# Altium schematic symbol library SSL-2020-SchLib1.SchLib: 57 symbols
Pins are listed as number, name and electrical type; pins without a type are passive.

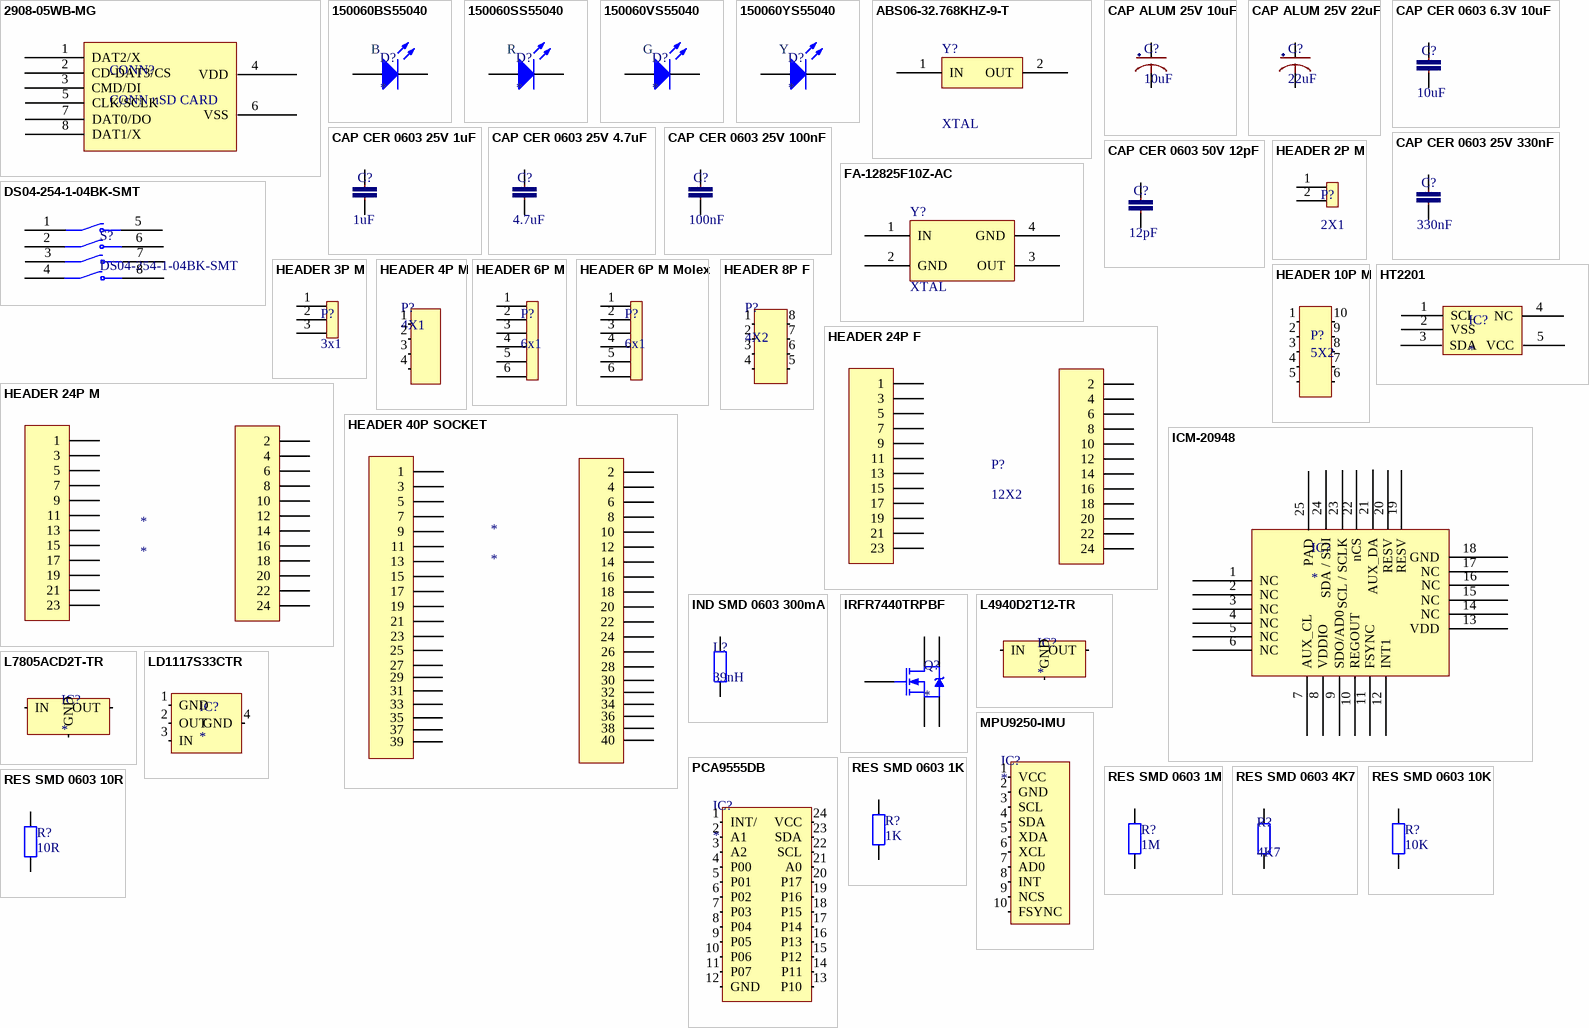
[diagram p0: symbols 2908-05WB-MG to RES SMD 0603 10R]

## 2908-05WB-MG
designator CONN?, comment CONN uSD CARD
8 Position Card Connector Secure Digital - microSD™ Surface Mount, Right Angle Gold; ComponentLink1Description: Datasheet; ComponentLink1URL: https://multimedia.3m.com/mws/media/416257O/3mtm-card-connector-microsdtm-2900-series-ts2197.pdf
footprint 2908-05WB-MG
pins: 1 DAT2/X, 2 CD-DAT3/CS, 3 CMD/DI, 4 VDD, 5 CLK/SCLK, 6 VSS, 7 DAT0/DO (power), 8 DAT1/X (power)

## 150060BS55040
designator D?
Standard LEDs - SMD WL-SMCD SMD Mono SMD 0603 Blue 465nm; Mfr: Wurth Elektronik; Forward Current: 20mA; Forward Voltage: 2V; Package: 0603 (1608 metric); Series: WL-SMCD; Color: Blue
footprint LED 0603 BLUE
pins: 1 P, 2 N
text: B

## 150060SS55040
designator D?
Standard LEDs - SMD WL-SMCD SMD MonoChip 0603 Super Red 645nm; Mfr: Wurth Elektronik; Forward Current: 20mA; Forward Voltage: 2V; Package: 0603 (1608 metric); Series: WL-SMCD; Color: Red
footprint LED 0603 RED
pins: 1 P, 2 N
text: R

## 150060VS55040
designator D?
Standard LEDs - SMD WL-SMCD SMD MonoChip 0603 BrtGrn 575nm; Mfr: Wurth Elektronik; Forward Current: 20mA; Forward Voltage: 2V; Color: Green; Package: 0603 (1608 metric); Series: WL-SMCD
footprint LED 0603 GREEN
pins: 1 P, 2 N
text: G

## 150060YS55040
designator D?
Standard LEDs - SMD WL-SMCD SMD MonoChip 0603 Yllw 591nm; Mfr: Wurth Elektronik; Forward Current: 20mA; Forward Voltage: 2V; Color: Yellow; Package: 0603 (1608 metric); Series: WL-SMCD
footprint LED 0603 YELLOW
pins: 1 P, 2 N
text: Y

## ABS06-32.768KHZ-9-T
designator Y?, comment XTAL
Crystals 32.768KHz 9pF 20ppm -40 C+85C; Mfr Nr: ABS06-32.768KHZ-9-T; Mfr: ABRACON; ESR: 90 kOhms; Package: 2 mm x 1.6 mm; Load Capacitance: 9 pF; Frequency: 32.768 kHz; Series: ABS06; Tolerance: 20 PPM
footprint XTAL-200X120
pins: 1 IN, 2 OUT

## CAP ALUM 25V 10uF
designator C?, comment 10uF
Aluminum Electrolytic Capacitors - SMD 25volts 10uF 5x5.4 20%; Mfr: Nichion; Mfr Nr: UWX1E100MCL1GB; Voltage Rating: 25V; Type: Surface Mount Aluminum Electrolytic Capacitor; Dimensions: 5x5mm; Series: UWX; Value: 10uF
footprint CAP ALUM 5X5
pins: 1, 2

## CAP ALUM 25V 22uF
designator C?, comment 22uF
Aluminum Electrolytic Capacitors - SMD 25V 22uF 20% AEC-Q200; Mfr: KEMET; Mfr Nr: EDH226M025S9DAA; Type: Surface Mount Aluminum Electrolytic Capacitor; Dimensions: 5x5mm; Voltage Rating: 25V; Series: EDH; Value: 22uF
footprint CAP ALUM 5X5
pins: 1, 2

## CAP CER 0603 6.3V 10uF
designator C?, comment 10uF
Multilayer Ceramic Capacitors MLCC - SMD/SMT 0603 6.3V 10uF X5R 10% Soft Term; Mfr Nr: C1608X5R0J106K080AE; Mfr: TDK; Type: Ceramic Capacitor; Dimensions: 0603 (1608 metric); Voltage Rating: 6.3V; Series: C; Value: 10uF
footprint CAP CER 0603
pins: 1, 2

## CAP CER 0603 25V 1uF
designator C?, comment 1uF
Multilayer Ceramic Capacitors MLCC - SMD/SMT 1uF 25V X5R 10%; Mfr Nr: C0603C105K3PAC7411; Mfr: KEMET; Type: Ceramic Capacitor; Dimensions: 0603 (1608 metric); Voltage Rating: 25V; Series: SMD Comm X5R; Value: 1uF
footprint CAP CER 0603
pins: 1, 2

## CAP CER 0603 25V 4.7uF
designator C?, comment 4.7uF
Multilayer Ceramic Capacitors MLCC - SMD/SMT 0603 25V 4.7uF X5R 20% T: 0.8mm; Mfr Nr: C1608X5R1E475M080AC; Mfr: KEMET; Type: Ceramic Capacitor; Dimensions: 0603 (1608 metric); Voltage Rating: 25V; Series: C; Value: 4.7uF
footprint CAP CER 0603
pins: 1, 2

## CAP CER 0603 25V 100nF
designator C?, comment 100nF
Multilayer Ceramic Capacitors MLCC - SMD/SMT 25V 0.1uF 0603 Y5V -20/+80%; Mfr Nr: C0603C104Z3VACTU; Mfr: KEMET; Type: Ceramic Capacitor; Dimensions: 0603 (1608 metric); Voltage Rating: 25V; Series: SMD Comm Y5V; Value: 100nF
footprint CAP CER 0603
pins: 1, 2

## CAP CER 0603 25V 330nF
designator C?, comment 330nF
Multilayer Ceramic Capacitors MLCC - SMD/SMT 0603 25VDC 0.33uF 10% X5R 0.8mm; Mfr Nr: C1608X5R1E334K080AC; Mfr: TDK; Voltage Rating: 25V; Type: Ceramic Capacitor; Dimensions: 0603 (1608 metric); Series: C; Value: 330nF
footprint CAP CER 0603
pins: 1, 2

## CAP CER 0603 50V 12pF
designator C?, comment 12pF
Multilayer Ceramic Capacitors MLCC - SMD/SMT 50V 12pF 0603 C0G 5%; Mfr Nr: C0603C120J5GAC; Mfr: KEMET; Type: Ceramic Capacitor; Dimensions: 0603 (1608 metric); Series: SMD Comm C0G; Voltage Rating: 50V; Value: 12pF
footprint CAP CER 0603
pins: 1, 2

## DS04-254-1-04BK-SMT
designator S?
Dip Switch SPST 4 Position Surface Mount Slide (Standard) Actuator 25mA 24VDC; ComponentLink1Description: Datasheet; ComponentLink1URL: https://br.mouser.com/datasheet/2/670/ds04-254-smt-1777718.pdf
footprint DS04-254-1-04BK-SMT
pins: 1, 2, 3, 4, 5, 6, 7, 8

## FA-12825F10Z-AC
designator Y?, comment XTAL
Crystals 25MHz 10PPM -20C +75C 9.0pF; Mfr Nr: FA-128  25.0000MF10Z-AC; Mfr: Epson Timing; Load Capacitance: 9 pF; ESR: 80 Ohms; Package: 2 mm x 1.6 mm; Frequency: 25 MHz; Series: FA-128; Tolerance: 10 PPM
footprint XTAL-200X160
pins: 1 IN, 2 GND, 3 OUT, 4 GND

## HEADER 2P M
designator P?, comment 2X1
footprint HEADER 2X1 MALE
pins: 1, 2

## HEADER 3P M
designator P?, comment 3x1
Headers & Wire Housings 03 SIL VERTICAL PIN HEADER TIN; Mfr Nr: M20-9770346
footprint HEADER 3X1 MALE
pins: 1, 2, 3

## HEADER 4P M
designator P?, comment 4X1
Headers & Wire Housings 1X04 POS VERT TIN; Mfr: TE Connectivity / AMP; Mfr Nr: 826926-4; Pitch: 2.54mm; Series: AMPMODU MOD II; Contact Gender:: Pin (Male); Type: Breakaway
footprint HEADER 4X1 MALE
pins: 1, 2, 3, 4

## HEADER 6P M
designator P?, comment 6x1
Connector Header Through Hole 6 position 0.100" (2.54mm)
footprint HEADER 6X1 MALE
pins: 1, 2, 3, 4, 5, 6

## HEADER 6P M Molex
designator P?, comment 6x1
Connector Header Through Hole 6 position 0.100" (2.54mm)
footprint HEADER 6X1 MALE
pins: 1, 2, 3, 4, 5, 6

## HEADER 8P F
designator P?, comment 4X2
Headers & Wire Housings 04+04 DIL VERTICAL SOCKET TIN; Mfr: Harwin; Mfr Nr: M20-7830446; Pitch: 2.54mm; Series: M20; Type: Socket Assembly; Contact Gender: Socket (Female)
footprint HEADER 4X2 FEM
pins: 1, 2, 3, 4, 5, 6, 7, 8

## HEADER 10P M
designator P?, comment 5X2
footprint HEADER 5X2 MALE
footprint HEADER SWD
pins: 1, 2, 3, 4, 5, 6, 7, 8, 9, 10

## HEADER 24P F
designator P?, comment 12X2
Headers & Wire Housings 12+12 DIL VERTICAL SOCKET GOLD+TIN; Mfr: Harwin; Mfr Nr: M20-7831242; Pitch: 2.54mm; Series: M20; Type: Socket Assembly; Contact Gender: Socket (Female)
footprint HEADER 12X2 FEM
pins: 1, 2, 3, 4, 5, 6, 7, 8, 9, 10, 11, 12, 13, 14, 15, 16, 17, 18, 19, 20, 21, 22, 23, 24

## HEADER 24P M
designator *
footprint HEADER 12X2 MALE
pins: 1, 2, 3, 4, 5, 6, 7, 8, 9, 10, 11, 12, 13, 14, 15, 16, 17, 18, 19, 20, 21, 22, 23, 24

## HEADER 40P SOCKET
designator *
footprint HEADER 20X2 SOCKET
pins: 1, 2, 3, 4, 5, 6, 7, 8, 9, 10, 11, 12, 13, 14, 15, 16, 17, 18, 19, 20, 21, 22, 23, 24, 25, 26, 27, 28, 29, 30, 31, 32, 33, 34, 35, 36, 37, 38, 39, 40

## HT2201
designator IC?
EEPROM EEPROM 1KB (128 X 8) I2C SOT-23-5 ROHS; Mfr: Holtek Semicon; Mfr Nr: HT2201; Package: SOT-23-5
footprint SOT-23-5
pins: 1 SCL, 2 VSS, 3 SDA, 4 NC, 5 VCC

## ICM-20948
designator IC?
IMU ACCEL/GYRO/COMPI2C/SPI 24QFN; ComponentLink1Description: Datasheet; ComponentLink1URL: https://invensense.tdk.com/wp-content/uploads/2016/06/DS-000189-ICM-20948-v1.3.pdf
footprint ICM-20948
pins: 1 NC, 2 NC, 3 NC, 4 NC, 5 NC, 6 NC, 7 AUX_CL, 8 VDDIO, 9 SDO/AD0, 10 REGOUT, 11 FSYNC, 12 INT1, 13 VDD, 14 NC, 15 NC, 16 NC, 17 NC, 18 GND, 19 RESV, 20 RESV, 21 AUX_DA, 22 nCS, 23 SCL / SCLK, 24 SDA / SDI, 25 PAD

## IND SMD 0603 300mA
designator L?, comment 39nH
FIXED IND 39NH 300MA 600 MOHM; ComponentLink1Description: New link; ComponentLink1URL: https://www.mouser.ie/ProductDetail/Wurth-Elektronik/7447860139?qs=sPbYRqrBIVnOGz9%2FqJxoDA%3D%3D
footprint IND SMD 0603
pins: 1, 2

## IRFR7440TRPBF
designator Q?
MOSFET 40V 90A 2.5mOhm 89nC StrongIRFET; Mfr: Infineon / IR; Type: N-Channel MOSFET; Package: TO-252-3
footprint DPAK/TO-252-3
pins: 1 G, 2 D, 2 D, 3 S, 3 S

## L4940D2T12-TR
designator IC?
LDO Voltage Regulators 1.5A Regulator Lo Drop; Mfr: STMicroelectronics; Series: L4940; Package: D2PAK
footprint D2PAK
pins: 1 IN, 2 GND, 3 OUT

## L7805ACD2T-TR
designator IC?
Linear Voltage Regulators 5.0V 1.0A Positive; Mfr: STMicroelectronics; Package: D2PAK; Series: L78
footprint D2PAK
pins: 1 IN, 2 GND, 3 OUT

## LD1117S33CTR
designator IC?
LDO Voltage Regulators 3.3V 0.8A Positive; Mfr: STMicroelectronics; Series: LD1117; Package: SOT-223-3
footprint SOT-223
pins: 1 GND, 2 OUT, 3 IN, 4 GND

## MPU9250-IMU
designator IC?
footprint MPU9250-IMU
pins: 1 VCC, 2 GND, 3 SCL, 4 SDA, 5 XDA, 6 XCL, 7 AD0, 8 INT, 9 NCS, 10 FSYNC

## PCA9555DB
designator IC?
INTERFACE - I/O EXPANDERS SSOP-24 ROHS; Mfr: NXP Semicon; Mfr Nr: PCA9555DB,118; Nr of I/Os: 16 I/O; Supply Voltage: 5.5V; Package: SSOP-24_5.3x8.2x0.65P
footprint SSOP-24 (SOIC, 24-Leads, Pitch 0.65mm)
pins: 1 INT/ "Interrupt output. Connect to VCC through a pull-up resistor", 2 A1 "Address input 1. Connect directly to VCC or ground", 3 A2 "Address input 2. Connect directly to VCC or ground", 4 P00 "P-port I/O. Push-pull design structure. At power on, P00 is configured as an input", 5 P01 "P-port I/O. Push-pull design structure. At power on, P01 is configured as an input", 6 P02 "P-port I/O. Push-pull design structure. At power on, P02 is configured as an input", 7 P03 "P-port I/O. Push-pull design structure. At power on, P03 is configured as an input", 8 P04 "P-port I/O. Push-pull design structure. At power on, P04 is configured as an input", 9 P05 "P-port I/O. Push-pull design structure. At power on, P05 is configured as an input", 10 P06 "P-port I/O. Push-pull design structure. At power on, P06 is configured as an input", 11 P07 "P-port I/O. Push-pull design structure. At power on, P01 is configured as an input", 12 GND, 13 P10 "P-port I/O. Push-pull design structure. At power on, P10 is configured as an input", 14 P11 "P-port I/O. Push-pull design structure. At power on, P11 is configured as an input", 15 P12 "P-port I/O. Push-pull design structure. At power on, P12 is configured as an input", 16 P13 "P-port I/O. Push-pull design structure. At power on, P13 is configured as an input", 17 P14 "P-port I/O. Push-pull design structure. At power on, P14 is configured as an input", 18 P15 "P-port I/O. Push-pull design structure. At power on, P15 is configured as an input", 19 P16 "P-port I/O. Push-pull design structure. At power on, P16 is configured as an input", 20 P17 "P-port I/O. Push-pull design structure. At power on, P17 is configured as an input", 21 A0 "Address input 0. Connect directly to VCC or ground", 22 SCL "Serial clock bus. Connect to VCC through a pull-up resistor", 23 SDA "Serial data bus. Connect to VCC through a pull-up resistor", 24 VCC "Supply Voltage"

## RES SMD 0603 1K
designator R?, comment 1K
Thick Film Resistors 1/10Watt 1Kohms 1% Commercial Use; Mfr: Vishay / Dale; Mfr Nr: CRCW06031K00FKEAC; Power Rating: 1/10 W; Dimensions: 0603 (1608 metric); Value: 1K
footprint RES SMD 0603
pins: 1, 2

## RES SMD 0603 1M
designator R?, comment 1M
Thick Film Resistors - SMD 1/10Watt 1Mohms 1% Commercial Use; Mfr: Vishay / Dale; Mfr Nr: CRCW06031M00FKEAC; Power Rating: 1/10 W; Dimensions: 0603 (1608 metric); Value: 1M
footprint RES SMD 0603
pins: 1, 2

## RES SMD 0603 4K7
designator R?, comment 4K7
footprint RES SMD 0603
pins: 1, 2

## RES SMD 0603 10K
designator R?, comment 10K
Thick Film Resistors - SMD 1/10Watt 10Kohms 1% Commercial Use; Mfr: Vishay / Dale; Mfr Nr: CRCW060310K0FKEAC; Power Rating: 1/10 W; Dimensions: 0603 (1608 metric); Value: 10K
footprint RES SMD 0603
pins: 1, 2

## RES SMD 0603 10R
designator R?, comment 10R
Thick Film Resistors 1/10Watt 10ohms 1% Commercial Use; Mfr: Vishay / Dale; Mfr Nr: CRCW060310R0FKEAC; Power Rating: 1/10 W; Dimensions: 0603 (1608 metric); Value: 10R
footprint RES SMD 0603
pins: 1, 2

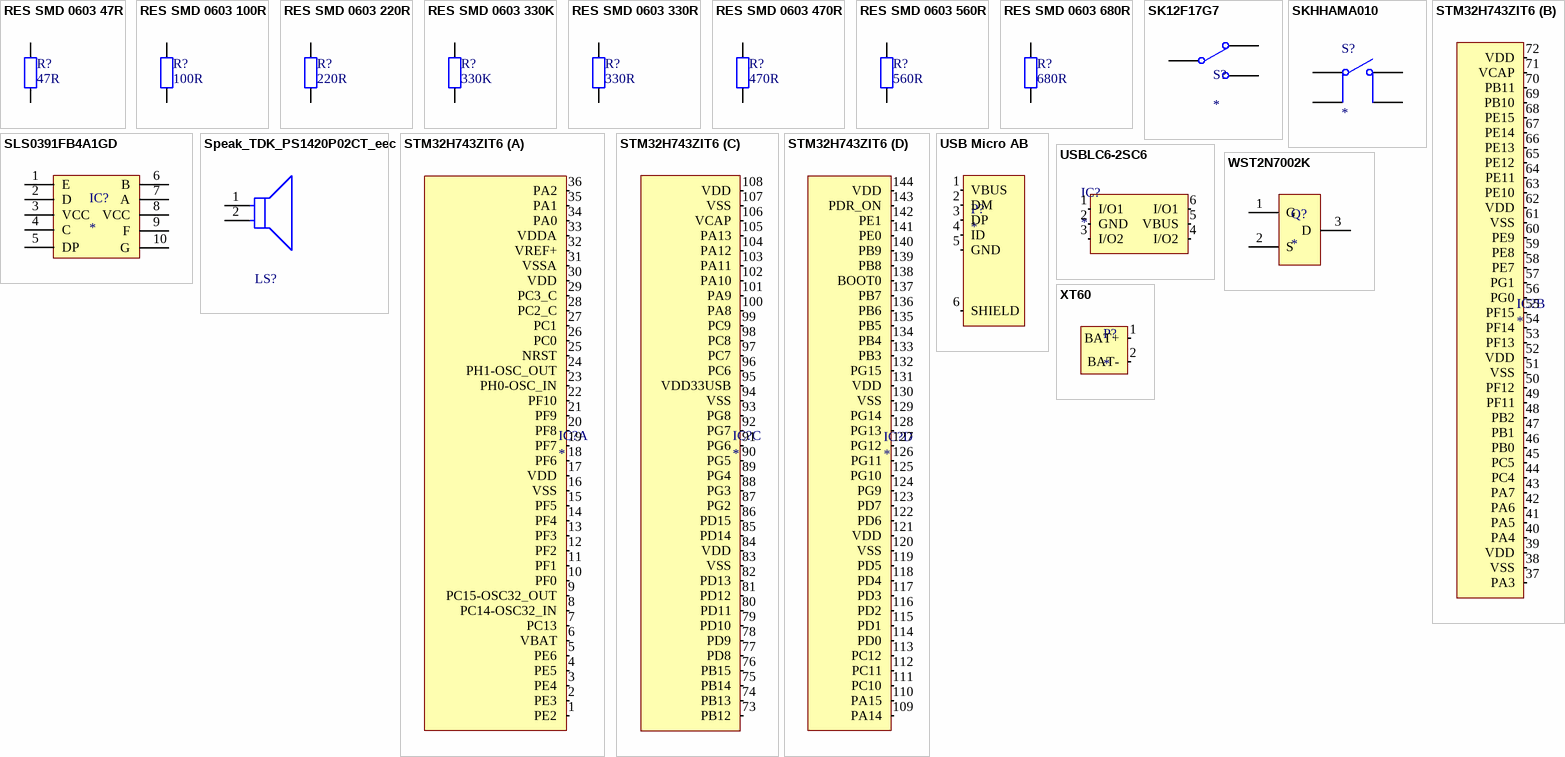
[diagram p1: symbols RES SMD 0603 47R to XT60]

## RES SMD 0603 47R
designator R?, comment 47R
Thick Film Resistors 1/10Watt 47ohms 1% Commercial Use; Mfr: Vishay / Dale; Mfr Nr: CRCW060347R0FKEAC; Power Rating: 1/10 W; Dimensions: 0603 (1608 metric); Value: 47R
footprint RES SMD 0603
pins: 1, 2

## RES SMD 0603 100R
designator R?, comment 100R
Thick Film Resistors 1/10Watt 100ohms 1% Commercial Use; Mfr: Vishay / Dale; Mfr Nr: CRCW0603100RFKEAC; Power Rating: 1/10 W; Dimensions: 0603 (1608 metric); Value: 100R
footprint RES SMD 0603
pins: 1, 2

## RES SMD 0603 220R
designator R?, comment 220R
Thick Film Resistors 1/10Watt 220ohms 5% Commercial Use; Mfr: Vishay / Dale; Mfr Nr: CRCW0603220RJNEAC; Power Rating: 1/10 W; Dimensions: 0603 (1608 metric); Value: 220R
footprint RES SMD 0603
pins: 1, 2

## RES SMD 0603 330K
designator R?, comment 330K
Thick Film Resistors 1/10Watt 330Kohms 1% Commercial Use; Mfr: Vishay / Dale; Mfr Nr: CRCW0603330KFKEAC; Power Rating: 1/10 W; Dimensions: 0603 (1608 metric); Value: 330K
footprint RES SMD 0603
pins: 1, 2

## RES SMD 0603 330R
designator R?, comment 330R
Thick Film Resistors 1/10Watt 330ohms 1% Commercial Use; Mfr: Vishay / Dale; Mfr Nr: CRCW0603330RFKEAC; Power Rating: 1/10 W; Dimensions: 0603 (1608 metric); Value: 330R
footprint RES SMD 0603
pins: 1, 2

## RES SMD 0603 470R
designator R?, comment 470R
Thick Film Resistors 1/10Watt 470ohms 1% Commercial Use; Mfr: Vishay / Dale; Mfr Nr: CRCW0603470RFKEAC; Power Rating: 1/10 W; Dimensions: 0603 (1608 metric); Value: 470R
footprint RES SMD 0603
pins: 1, 2

## RES SMD 0603 560R
designator R?, comment 560R
Thick Film Resistors 1/10watt 560ohms 5%; Mfr: Vishay / Dale; Mfr Nr: CRCW0603560RJNEA; Power Rating: 1/10 W; Dimensions: 0603 (1608 metric); Value: 560R
footprint RES SMD 0603
pins: 1, 2

## RES SMD 0603 680R
designator R?, comment 680R
Thick Film Resistors 1/10Watt 680ohms 5% Commercial Use; Mfr: Vishay / Dale; Mfr Nr: CRCW0603680RJNEAC; Power Rating: 1/10 W; Dimensions: 0603 (1608 metric); Value: 680R
footprint RES SMD 0603
pins: 1, 2

## SK12F17G7
designator S?
Slide Switches SPDT 0.3 Amp at 30 V; Mfr: C&K; Mfr Nr: SK12F17G7; Current Rating: 300 mA; Voltage Rating: 30 VDC; Contact Form: SPDT; Type: Slide Switch; Series: SK
footprint SPDT-SWITCH
pins: 1 NC1, 2 COMMON1, 3 NO1

## SKHHAMA010
designator S?
Tactile Switches 6.0x6.0x5.0mm 160gf; Mfr Nr: SKHHAMA010; Mfr: ALPS; Contact Form: SPST; Voltage Rating: 12 VDC; Current Rating: 50 mA; Series: SKHH; Type: Tactile Switch
footprint TACT-SWITCH-6X6X5
pins: 1, 2, 3, 4

## SLS0391FB4A1GD
designator IC?
1 0.39''(9.91MM) ANODE(POSITIVE ELECTRODE) BLUE 473NM SMD LED SEGMENT DISPLAY ROHS; Mfr Nr: SLS0391FB4A1GD; Mfr: SUNLIGHT; ComponentLink1Description: Datasheet; ComponentLink1URL: https://www.lumex.com/spec/LDS-SMHTA304RISITR.pdf; Package: SMD-10_9.8x13.0x1.88P
footprint LDS-SMHTA304RISITR
pins: 1 E, 2 D, 3 VCC, 4 C, 5 DP, 6 B, 7 A, 8 VCC, 9 F, 10 G

## Speak_TDK_PS1420P02CT_eec
designator LS?
SPEAK AUDIO PIEZO TRANSDUCER 30V TH; Part Number: PS1420P02CT; Manufacturer: TDK; helpURL: https://upverter.com/upn/revision/c40fcc79eb057440/; ComponentLink2Description: Datasheet; Temperature: -10°C to +70°C; Package: PTH_BZ; Supplier 2: Mouser; Price: 0.484234236378; Supplier 1: Digi-Key; ComponentLink1URL: https://upverter.com/upn/revision/c40fcc79eb057440/; Supplier Part Number 2: 810-PS1420P02CT; Supplier Part Number 1: 445-2526-1-ND; ComponentLink1Description: Upverter; ComponentLink2URL: https://upverter.com/datasheet/458958daf548c3d54cf9a7d1ea1ff395e223655a.pdf; RoHS: TRUE; Mouser Part Number: 810-PS1420P02CT; Ipc Land Pattern Name: CAPRD500W80D1400H1100; Temperature Range High: +70°C; Digikey Description: SPEAK AUDIO PIEZO TRANSDUCER 30V TH; Digikey Part Number: 445-2526-1-ND; Lead Free: yes; Temperature Range Low: -10°C
footprint TDK_PS1420P02CT_0
pins: 1, 2

## STM32H743ZIT6
designator IC?
ARM Microcontrollers - MCU High-performance and DSP with DP-FPU, ARM Cortex-M7 MCU with 2MBytes Flash, 1MB RAM, 400 MHz CPU, Art Accelerator, L1 cache, external memory interface, large set of peripherals; Mfr: STMicroelectronics; Mfr Nr: STM32H743ZIT6; Core: ARM Cortex M7; Package: LQFP-144; Series: STM32H743ZI
footprint LQFP-144
part A pins: 1 PE2, 2 PE3, 3 PE4, 4 PE5, 5 PE6, 6 VBAT, 7 PC13, 8 PC14-OSC32_IN, 9 PC15-OSC32_OUT, 10 PF0, 11 PF1, 12 PF2, 13 PF3, 14 PF4, 15 PF5, 16 VSS, 17 VDD, 18 PF6, 19 PF7, 20 PF8, 21 PF9, 22 PF10, 23 PH0-OSC_IN, 24 PH1-OSC_OUT, 25 NRST, 26 PC0, 27 PC1, 28 PC2_C, 29 PC3_C, 30 VDD, 31 VSSA, 32 VREF+, 33 VDDA, 34 PA0, 35 PA1, 36 PA2
part B pins: 37 PA3, 38 VSS, 39 VDD, 40 PA4, 41 PA5, 42 PA6, 43 PA7, 44 PC4, 45 PC5, 46 PB0, 47 PB1, 48 PB2, 49 PF11, 50 PF12, 51 VSS, 52 VDD, 53 PF13, 54 PF14, 55 PF15, 56 PG0, 57 PG1, 58 PE7, 59 PE8, 60 PE9, 61 VSS, 62 VDD, 63 PE10, 64 PE11, 65 PE12, 66 PE13, 67 PE14, 68 PE15, 69 PB10, 70 PB11, 71 VCAP, 72 VDD
part C pins: 73 PB12, 74 PB13, 75 PB14, 76 PB15, 77 PD8, 78 PD9, 79 PD10, 80 PD11, 81 PD12, 82 PD13, 83 VSS, 84 VDD, 85 PD14, 86 PD15, 87 PG2, 88 PG3, 89 PG4, 90 PG5, 91 PG6, 92 PG7, 93 PG8, 94 VSS, 95 VDD33USB, 96 PC6, 97 PC7, 98 PC8, 99 PC9, 100 PA8, 101 PA9, 102 PA10, 103 PA11, 104 PA12, 105 PA13, 106 VCAP, 107 VSS, 108 VDD
part D pins: 109 PA14, 110 PA15, 111 PC10, 112 PC11, 113 PC12, 114 PD0, 115 PD1, 116 PD2, 117 PD3, 118 PD4, 119 PD5, 120 VSS, 121 VDD, 122 PD6, 123 PD7, 124 PG9, 125 PG10, 126 PG11, 127 PG12, 128 PG13, 129 PG14, 130 VSS, 131 VDD, 132 PG15, 133 PB3, 134 PB4, 135 PB5, 136 PB6, 137 PB7, 138 BOOT0, 139 PB8, 140 PB9, 141 PE0, 142 PE1, 143 PDR_ON, 144 VDD

## USB Micro AB
designator P?
USB Connectors WR-COM USB Micro SMT Type AB Horiztl; Mfr: Wurth Elektronik; Mfr Nr: 629105150921; Current Rating: 1.8 A; Gender: Jack (Female); Type: Micro USB AB; Series: WR-COM
footprint USB-MICRO-AB (USB-Connector)
pins: 1 VBUS, 2 DM, 3 DP, 4 ID, 5 GND, 6 SHIELD

## USBLC6-2SC6
designator IC?
ESD Suppressors / TVS Diodes ESD Protection Low Cap; Mfr: STMicroelectronics; Mfr Nr: USBLC6-2SC6; Series: USBLC6-2; Package: SOT-23-6
footprint SOT-23-6
pins: 1 I/O1, 2 GND, 3 I/O2, 4 I/O2, 5 VBUS, 6 I/O1

## WST2N7002K
designator Q?
MOSFET N TRENCH 60V 300MA 2.5V @ 250UA 3 ? @ 500MA,10V SOT-23(SOT-23-3) ROHS; Mfr: Winsok Semicon; Mfr Nr: WST2N7002K; ComponentLink1Description: Datasheet; ComponentLink1URL: https://br.mouser.com/datasheet/2/408/T2N7002AK_datasheet_en_20150401-708738.pdf; Package: SOT-23-3
footprint SOT-23-3
pins: 1 G, 2 S, 3 D

## XT60
designator P?
DFRobot Accessories High Quality Gold Plated XT60 Male &amp; Female Bullet Connector; Mfr Nr: FIT0587; Mfr: DFRobot; Type: XT60 Male Connector
footprint XT60-Male
pins: 1 BAT+, 2 BAT-